# EAGLE library part 62104421021 (library Wuerth_Elektronik_eiCan_Pin_&_Socked_Headers_v1.3)
WR-PHD 1.27mm Dual SMT Pin Header H=3.80 mm, 44 Pins
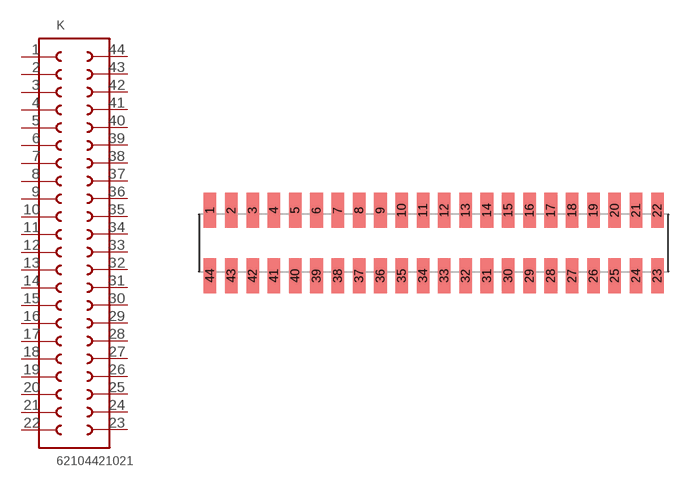
[diagram p334: symbol with the pads of 62104421021; footprint 62104421021]

Designator prefix K

## 62104421021  [62104421021]
1  1  pas
2  2  pas
3  3  pas
4  4  pas
5  5  pas
6  6  pas
7  7  pas
8  8  pas
9  9  pas
10  10  pas
11  11  pas
12  12  pas
13  13  pas
14  14  pas
15  15  pas
16  16  pas
17  17  pas
18  18  pas
19  19  pas
20  20  pas
21  21  pas
22  22  pas
23  23  pas
24  24  pas
25  25  pas
26  26  pas
27  27  pas
28  28  pas
29  29  pas
30  30  pas
31  31  pas
32  32  pas
33  33  pas
34  34  pas
35  35  pas
36  36  pas
37  37  pas
38  38  pas
39  39  pas
40  40  pas
41  41  pas
42  42  pas
43  43  pas
44  44  pas

## Footprint 62104421021 (pad centres in mm)
WR-PHD 1.27mm Dual SMT Pin Header H=3.80 mm, 44 Pins
smd 0.75 x 2.1: 1 -13.335,1.95; 2 -12.065,1.95; 3 -10.795,1.95; 4 -9.525,1.95; 5 -8.255,1.95; 6 -6.985,1.95; 7 -5.715,1.95; 8 -4.445,1.95; 9 -3.175,1.95; 10 -1.905,1.95; 11 -0.635,1.95; 12 0.635,1.95; 13 1.905,1.95; 14 3.175,1.95; 15 4.445,1.95; 16 5.715,1.95; 17 6.985,1.95; 18 8.255,1.95; 19 9.525,1.95; 20 10.795,1.95; 21 12.065,1.95; 22 13.335,1.95; 23 13.335,-1.95; 24 12.065,-1.95; 25 10.795,-1.95; 26 9.525,-1.95; 27 8.255,-1.95; 28 6.985,-1.95; 29 5.715,-1.95; 30 4.445,-1.95; 31 3.175,-1.95; 32 1.905,-1.95; 33 0.635,-1.95; 34 -0.635,-1.95; 35 -1.905,-1.95; 36 -3.175,-1.95; 37 -4.445,-1.95; 38 -5.715,-1.95; 39 -6.985,-1.95; 40 -8.255,-1.95; 41 -9.525,-1.95; 42 -10.795,-1.95; 43 -12.065,-1.95; 44 -13.335,-1.95